# Altium footprint library OS-2024-Badge-PCB-REV1.PcbLib: 23 footprints (part 2 of 2)
Each footprint in its own frame and in the unit in brackets; x right, y up, seen from the top. Pads: shape width x height; smd on the part's side, far side on the other; paste and mask are expansions set on the pad; w line width, h text height; cw(c..) or ccw(c..) is an arc to the next point about the centre after c.
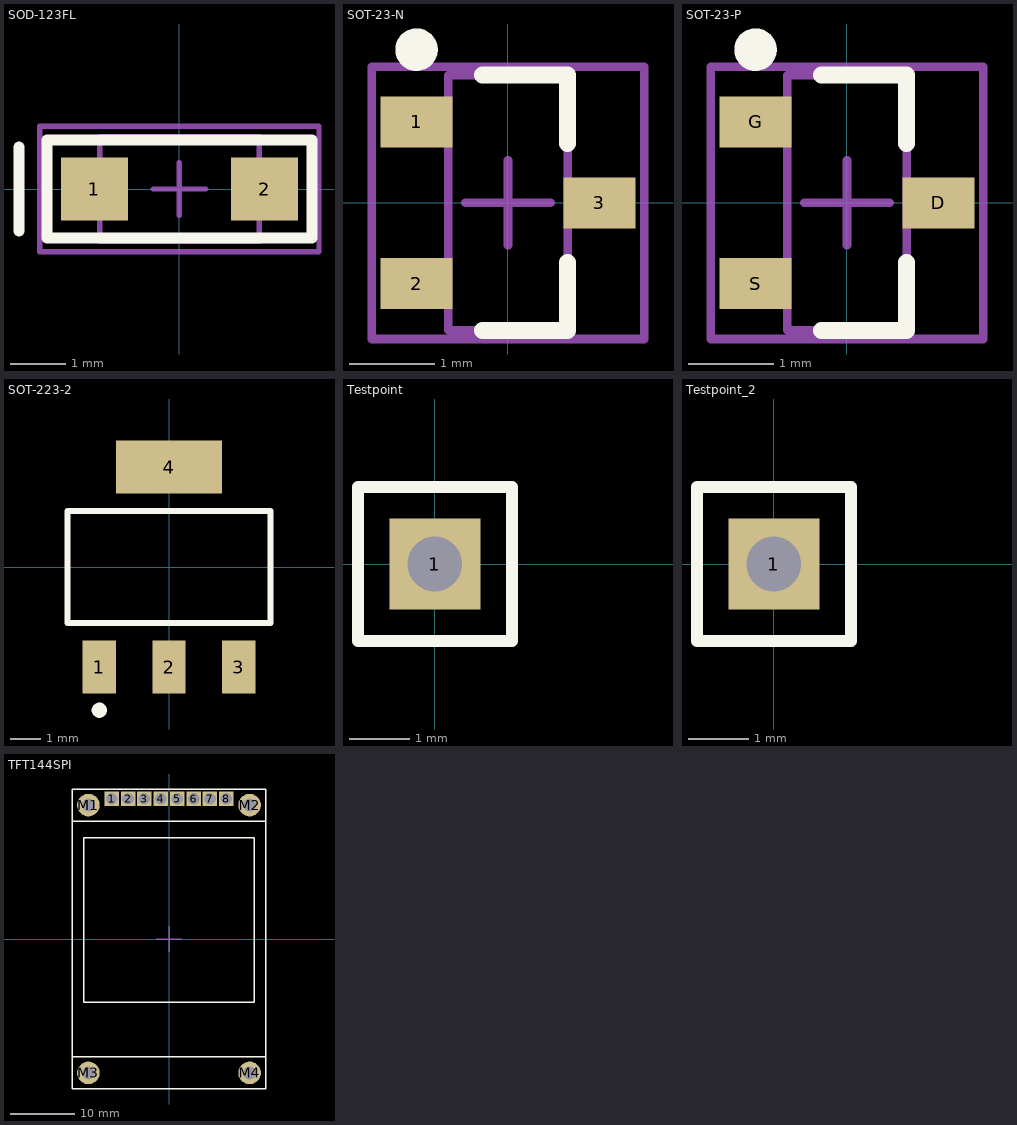
[diagram p1: the footprints below, top view; thin cyan lines are the x and y axes]

## SOD-123FL [mm] "DIODE SCHOTTKY 40V 2A SOD123FL"
height 0.55
pads (2):
  rect 1.22x1.15 smd: 1(-1.55,0) 2(1.55,0)
Top Overlay:
  lines w0.203: -2.921,-0.762 -2.921,0.762 ; -2.413,-0.889 -2.413,0.889 2.413,0.889 2.413,-0.889 -2.413,-0.889
Mechanical 13:
  lines w0.1: -1.45,-0.95 1.45,-0.95 1.45,0.95 -1.45,0.95 -1.45,-0.95
Mechanical 15:
  lines w0.1: -0.475,0 0.475,0 ; 0,-0.475 0,0.475 ; -2.54,-1.143 2.54,-1.143 2.54,1.143 -2.54,1.143 -2.54,-1.143
3D body: height 1.1, standoff 0, extent -1.45,-0.95 1.45,0.95

## SOT-23-N [mm] "MOSFET N-CH 60V 280MA SOT23-3"
height 1.1
pads (3):
  rect 0.85x0.6 smd: 1(-1.075,0.95) 2(-1.075,-0.95) 3(1.075,0)
Top Overlay:
  circle w0.25: c-1.075,1.8 r0.125
  lines w0.2: -0.3,-1.5 0.7,-1.5 0.7,-0.7 ; -0.3,1.5 0.7,1.5 0.7,0.7
Mechanical 13:
  lines w0.1: -0.7,-1.5 -0.7,1.5 0.7,1.5 0.7,-1.5 -0.7,-1.5
Mechanical 15:
  lines w0.1: -0.5,0 0.5,0 ; 0,-0.5 0,0.5 ; -1.6,-1.6 -1.6,1.6 1.6,1.6 1.6,-1.6 -1.6,-1.6
3D body: height 1.1, standoff 0, extent -0.7,-1.5 0.7,1.5

## SOT-23-P [mm] "MOSFET P-CH 20V 4A SOT23-3"
height 1.1
pads (3):
  rect 0.85x0.6 smd: D(1.075,0) G(-1.075,0.95) S(-1.075,-0.95)
Top Overlay:
  circle w0.25: c-1.075,1.8 r0.125
  lines w0.2: -0.3,-1.5 0.7,-1.5 0.7,-0.7 ; -0.3,1.5 0.7,1.5 0.7,0.7
Mechanical 13:
  lines w0.1: -0.7,-1.5 0.7,-1.5 0.7,1.5 -0.7,1.5 -0.7,-1.5
Mechanical 15:
  lines w0.1: -0.5,0 0.5,0 ; 0,-0.5 0,0.5 ; -1.6,-1.6 1.6,-1.6 1.6,1.6 -1.6,1.6 -1.6,-1.6
3D body: height 1.1, standoff 0, extent -0.7,-1.5 0.7,1.5

## SOT-223-2 [mm] "SOT-223/SC-73; 4 Leads; Body 6.7 x 7.3 mm, inc. leads (LxW max)"
height 1.75
pads (4):
  rect 1.1x1.75 smd: 1(-2.3,-3.3) 2(0,-3.3) 3(2.3,-3.3)
  rect 3.5x1.75 smd: 4(0,3.3)
Top Overlay:
  circle w0.25: c-2.3,-4.725 r0.125
  lines w0.2: -3.35,-1.85 -3.35,1.85 3.35,1.85 3.35,-1.85 -3.35,-1.85
3D body "SOT-223-2.STEP": height 1.85, standoff -0.05, extent -3.35,-3.704 3.35,3.5

## Testpoint [mm] "1 Pos Header"
height 3
pads (1):
  rect 1.5x1.5 hole 0.9: 1(0,0)
Top Overlay:
  lines w0.2: -1.27,-1.27 -1.27,1.27 1.27,1.27 1.27,-1.27 -1.27,-1.27

## Testpoint_2 [mm]
pads (1):
  rect 1.5x1.5 hole 0.9: 1(0,0)
Top Overlay:
  lines w0.2: -1.27,-1.27 -1.27,1.27 1.27,1.27 1.27,-1.27 -1.27,-1.27

## TFT144SPI [mm] "1.44\" 128x128 65K SPI Full Color TFT LCD Display Module ST7735 OLED for Arduino"
height 5
pads (12):
  rect 2.257x2.257 hole 1.8: 1(-8.89,21.75) 2(-6.35,21.75) 3(-3.81,21.75) 4(-1.27,21.75) 5(1.27,21.75) 6(3.81,21.75) 7(6.35,21.75) 8(8.89,21.75)
  round 3.5 hole 2: M1(-12.5,20.75) M2(12.5,20.75) M3(-12.5,-20.75) M4(12.5,-20.75)
Top Overlay:
  lines w0.203: -15,-18.25 15,-18.25 ; -15,18.25 15,18.25 ; -15,-23.25 -15,23.25 15,23.25 15,-23.25 -15,-23.25 ; -13.25,-9.81 -13.25,15.69 13.25,15.69 13.25,-9.81 -13.25,-9.81
Mechanical 15:
  lines w0.203: -2,0 2,0 ; 0,-2 0,2